# EAGLE library part HMC5843 (library HMC5843)
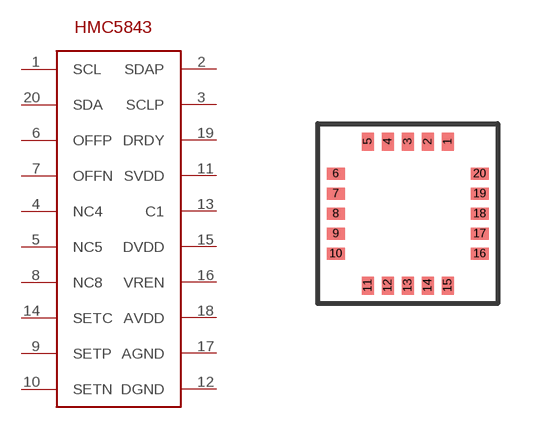
[diagram p0: symbol with the pads of HMC5843; footprint HMC5843]

Designator prefix -

## HMC5843HMC5843_V2  [HMC5843]
1  SCL  in
2  SDAP
3  SCLP
4  NC4  nc
5  NC5  nc
6  OFFP
7  OFFN
8  NC8  nc
9  SETP
10  SETN
11  SVDD
12  DGND
13  C1
14  SETC
15  DVDD
16  VREN
17  AGND
18  AVDD
19  DRDY
20  SDA

## Footprint HMC5843 (pad centres in mm)
smd 0.3 x 0.45: 1 1,1.8; 2 0.5,1.8; 3 0,1.8; 4 -0.5,1.8; 5 -1,1.8; 11 -1,-1.8; 12 -0.5,-1.8; 13 0,-1.8; 14 0.5,-1.8; 15 1,-1.8
smd 0.45 x 0.3: 6 -1.8,1; 7 -1.8,0.5; 8 -1.8,0; 9 -1.8,-0.5; 10 -1.8,-1; 16 1.8,-1; 17 1.8,-0.5; 18 1.8,0; 19 1.8,0.5; 20 1.8,1